# Altium footprint library 10114830-10104LF.PcbLib: 1 footprints
Each footprint in its own frame and in the unit in brackets; x right, y up, seen from the top. Pads: shape width x height; smd on the part's side, far side on the other; paste and mask are expansions set on the pad; w line width, h text height; cw(c..) or ccw(c..) is an arc to the next point about the centre after c.
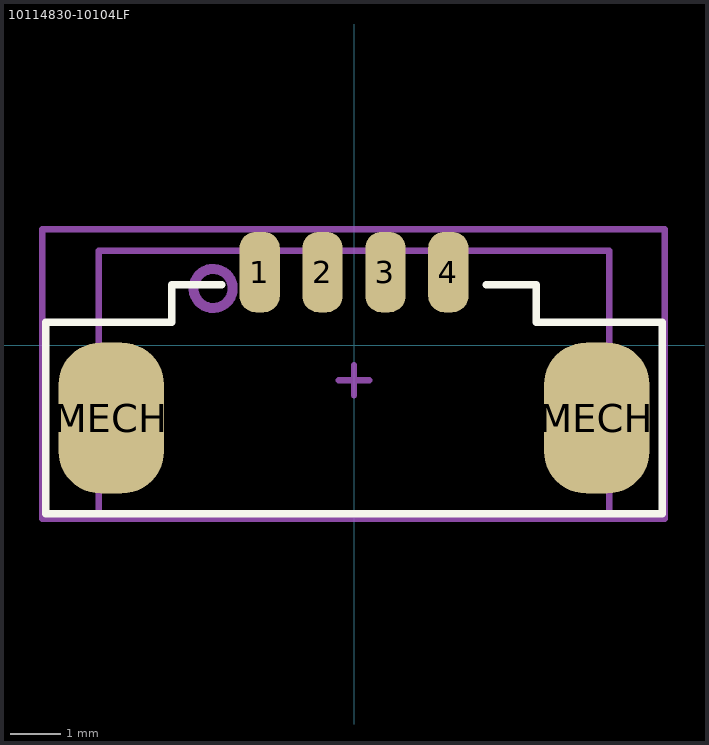
[diagram p0: the footprint, top view; thin cyan lines are the x and y axes]

## 10114830-10104LF [mm]
pads (6):
  rrect80% 0.8x1.6 smd mask+0: 1(-1.875,1.45) 2(-0.625,1.45) 3(0.625,1.45) 4(1.875,1.45)
  rrect80% 2.1x3 smd mask+0: MECH(-4.825,-1.45) MECH(4.825,-1.45)
Top Overlay:
  lines w0.15: -2.625,1.2 -3.625,1.2 -3.625,0.45 -6.125,0.45 -6.125,-3.35 -5.325,-3.35 6.125,-3.35 6.125,0.45 3.625,0.45 3.625,1.2 2.625,1.2
Top Assembly:
  circle w0.2: c-2.8,1.125 r0.389
  lines w0.127: -5.075,-3.4 -5.075,1.875 5.075,1.875 5.075,-3.4 -5.075,-3.4
Top Courtyard:
  lines w0.127: -0.3,-0.7 0.3,-0.7 ; 0,-1 0,-0.4 ; -6.2,-3.45 6.175,-3.45 6.175,2.3 -6.2,2.3 -6.2,-3.45
3D body "10114830-XXX04LFc.STEP": height 3.45, standoff -0.03, extent -5.075,-3.425 5.075,1.875